# Altium schematic symbol library SN74LVC74A.Schlib: 1 symbol
Pins are listed as number, name and electrical type; pins without a type are passive.

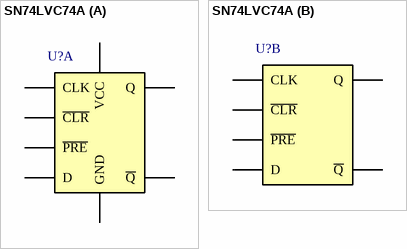
[diagram p0: symbol SN74LVC74A]

## SN74LVC74A
designator U?  (value not drawn)
part A pins: 1 ~{CLR}, 2 D, 3 CLK, 4 ~{PRE}, 5 Q, 6 ~{Q}, 7 GND, 14 VCC
part B pins: 8 ~{Q}, 9 Q, 10 ~{PRE}, 11 CLK, 12 D, 13 ~{CLR}